# EAGLE library part JTAG/SWD_TRACE_HEADER (library Labops_Lib_AH)
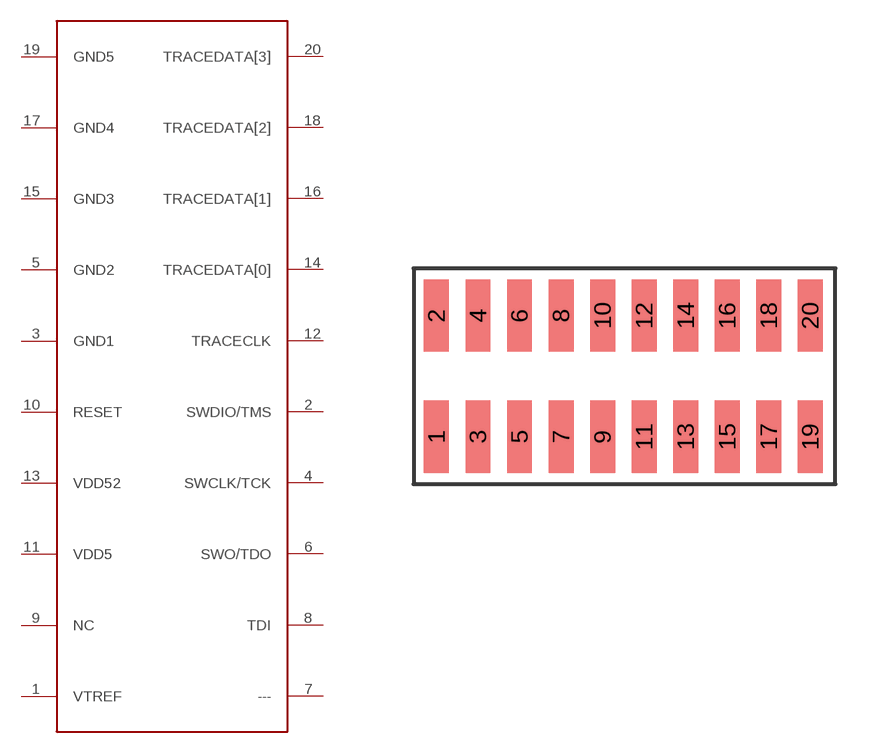
[diagram p27: symbol with the pads of HEADER_2_X_10_.05_INCH; footprint HEADER_2_X_10_.05_INCH]

Designator prefix J

## JTAG/SWD_TRACE_HEADER  [HEADER_2_X_10_.05_INCH]
1  VTREF
2  SWDIO/TMS
3  GND1
4  SWCLK/TCK
5  GND2
6  SWO/TDO
7  ---
8  TDI
9  NC
10  RESET
11  VDD5
12  TRACECLK
13  VDD52
14  TRACEDATA[0]
15  GND3
16  TRACEDATA[1]
17  GND4
18  TRACEDATA[2]
19  GND5
20  TRACEDATA[3]

## Footprint HEADER_2_X_10_.05_INCH (pad centres in mm)
smd 0.762 x 2.21: 1 0,-1.854; 2 0,1.854; 3 1.27,-1.854; 4 1.27,1.854; 5 2.54,-1.854; 6 2.54,1.854; 7 3.81,-1.854; 8 3.81,1.854; 9 5.08,-1.854; 10 5.08,1.854; 11 6.35,-1.854; 12 6.35,1.854; 13 7.62,-1.854; 14 7.62,1.854; 15 8.89,-1.854; 16 8.89,1.854; 17 10.16,-1.854; 18 10.16,1.854; 19 11.43,-1.854; 20 11.43,1.854